# Altium footprint library __ui.PcbLib: 79 footprints (part 5 of 5)
Each footprint in its own frame and in the unit in brackets; x right, y up, seen from the top. Pads: shape width x height; smd on the part's side, far side on the other; paste and mask are expansions set on the pad; w line width, h text height; cw(c..) or ccw(c..) is an arc to the next point about the centre after c.
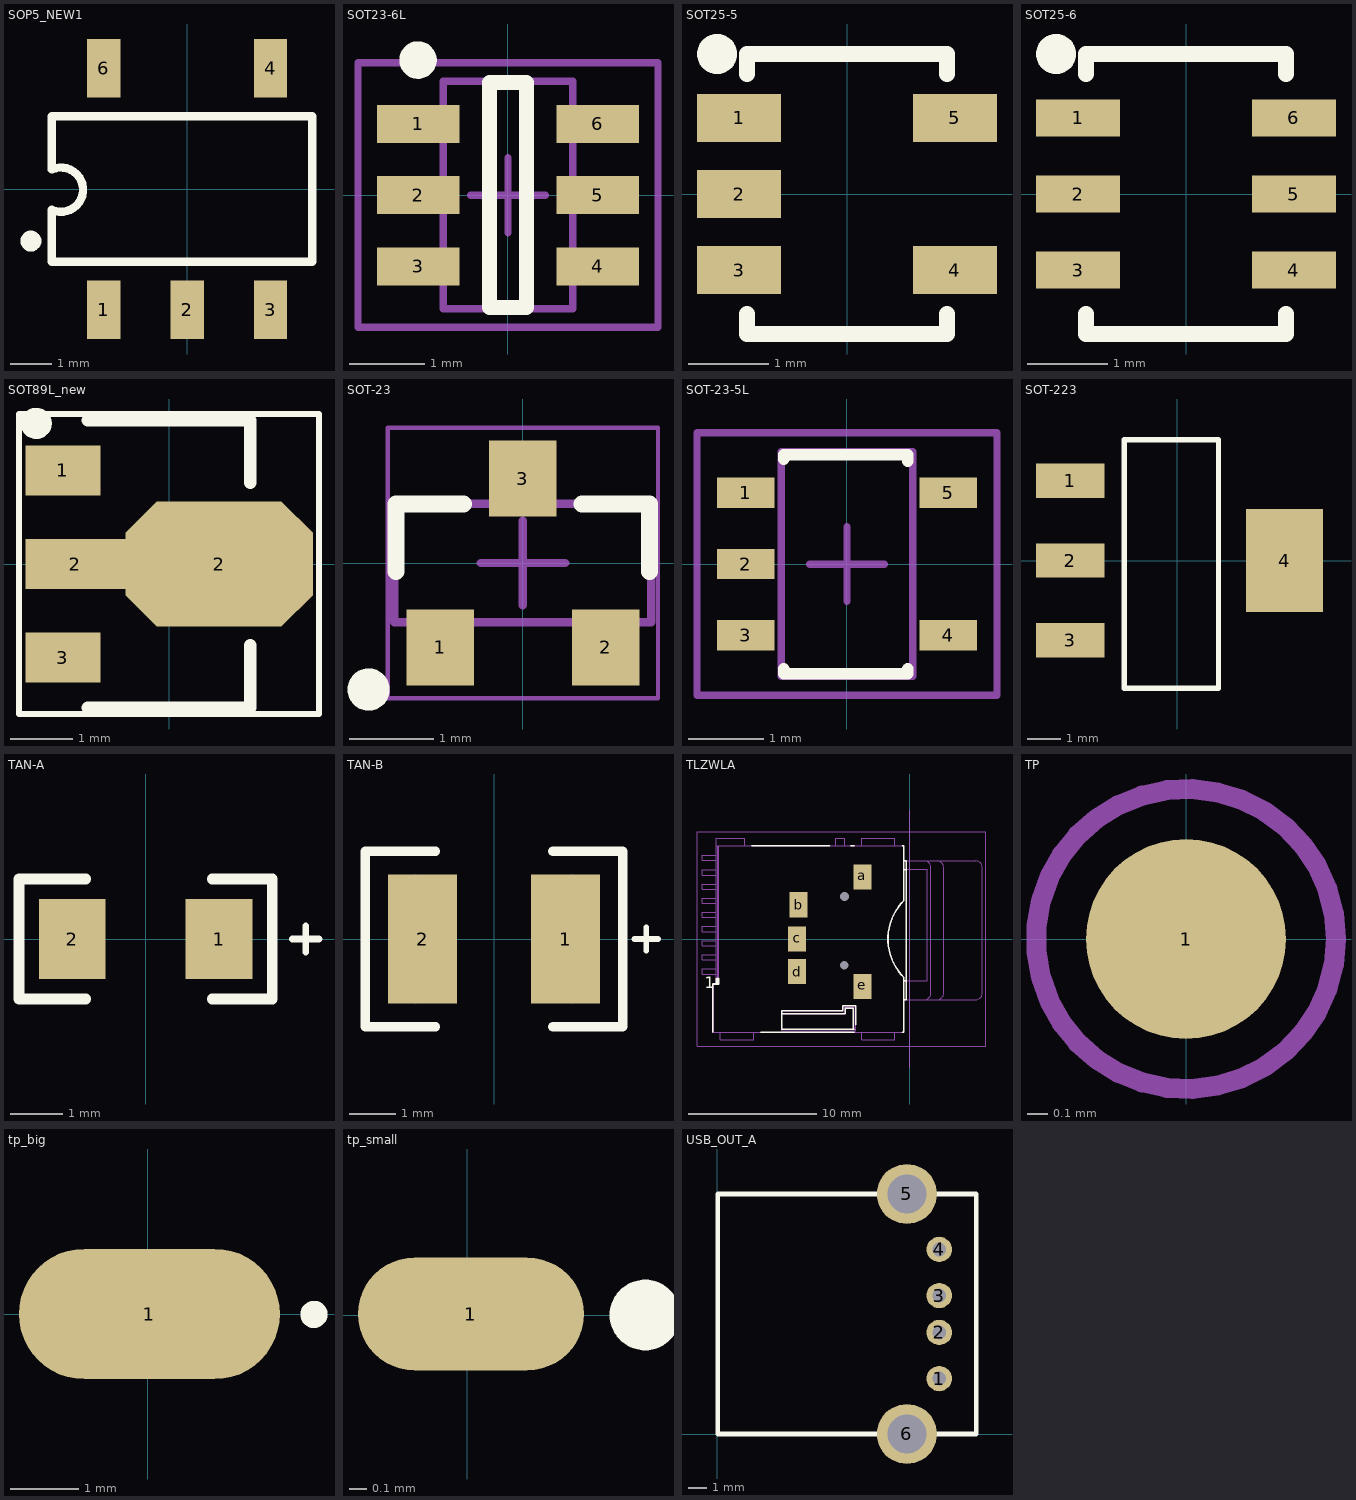
[diagram p4: the footprints below, top view; thin cyan lines are the x and y axes]

## SOP5_NEW1 [mm] "Small Outline; 6 Leads (1 Absent); Body Width 6.9 mm; Pitch 2 mm"
height 4.4
pads (5):
  rect 0.8x1.4 smd: 1(-2,-2.9) 2(0,-2.9) 3(2,-2.9) 4(2,2.9) 6(-2,2.9)
Top Overlay:
  circle w0.25: c-3.75,-1.25 r0.125
  lines w0.2: -3.25,0.5 -3.25,1.75 3,1.75 3,-1.75 -3.25,-1.75 -3.25,-0.5 ccw(c-3.031,-0.016) -3.249,0.469

## SOT23-6L [mm]
height 1.25
pads (6):
  rect 1.1x0.508 smd: 1(-1.2,0.95) 2(-1.2,0) 3(-1.2,-0.95) 4(1.2,-0.95) 5(1.2,0) 6(1.2,0.95)
Top Overlay:
  circle w0.25: c-1.2,1.8 r0.125
  lines w0.2: -0.25,-1.5 -0.25,1.5 0.25,1.5 0.25,-1.5 -0.25,-1.5
Mechanical 13:
  lines w0.1: -0.865,-1.515 0.865,-1.515 0.865,1.515 -0.865,1.515 -0.865,-1.515
Mechanical 15:
  lines w0.1: -0.5,0 0.5,0 ; 0,-0.5 0,0.5 ; -2,-1.763 2,-1.763 2,1.763 -2,1.763 -2,-1.763
3D body: height 1.25, standoff 0.05, extent -0.865,-1.515 0.865,1.515

## SOT25-5 [mm] "5 lead package"
height 1
pads (5):
  rect 1.05x0.6 smd: 1(-1.35,0.95) 2(-1.35,0) 3(-1.35,-0.95) 4(1.35,-0.95) 5(1.35,0.95)
Top Overlay:
  circle w0.25: c-1.625,1.75 r0.125
  lines w0.2: -1.25,-1.5 -1.25,-1.75 1.25,-1.75 1.25,-1.5 ; -1.25,1.5 -1.25,1.75 1.25,1.75 1.25,1.5

## SOT25-6 [mm] "6 lead package"
height 1
pads (6):
  rect 1.05x0.457 smd: 1(-1.35,0.95) 2(-1.35,0) 3(-1.35,-0.95) 4(1.35,-0.95) 5(1.35,0) 6(1.35,0.95)
Top Overlay:
  circle w0.25: c-1.625,1.75 r0.125
  lines w0.2: -1.25,-1.5 -1.25,-1.75 1.25,-1.75 1.25,-1.5 ; -1.25,1.5 -1.25,1.75 1.25,1.75 1.25,1.5

## SOT89L_new [mm] "SOT89, 3-Leads, Body 4.5x2.4 mm, Pitch 1.5mm, Lead Span 4.1mm, IPC High Density"
height 1.6
pads (4):
  rect 1.2x0.8 smd: 1(-1.7,1.5) 3(-1.7,-1.5)
  rect 1.6x0.8 smd: 2(-1.5,0)
  oct 3x2 smd: 2(0.8,0)
Top Overlay:
  circle w0.25: c-2.125,2.25 r0.125
  lines w0.1: -2.4,-2.4 -2.4,2.4 2.4,2.4 2.4,-2.4 -2.4,-2.4
  lines w0.2: -1.3,-2.3 1.3,-2.3 1.3,-1.3 ; -1.3,2.3 1.3,2.3 1.3,1.3

## SOT-23 [mm]
height 1.1
pads (3):
  rect 0.8x0.9 smd: 1(-0.98,-1) 2(0.98,-1) 3(0,1)
Top Overlay:
  circle w0.25: c-1.827,-1.499 r0.125
  lines w0.2: -1.5,-0.1 -1.5,0.7 -0.7,0.7 ; 0.7,0.7 1.5,0.7 1.5,-0.1
Mechanical 13:
  lines w0.1: -1.52,-0.7 1.52,-0.7 1.52,0.7 -1.52,0.7 -1.52,-0.7
Mechanical 15:
  lines w0.05: -1.6,-1.6 1.6,-1.6 1.6,1.6 -1.6,1.6 -1.6,-1.6
  lines w0.1: -0.5,0 0.5,0 ; 0,-0.5 0,0.5
3D body: height 1.11, standoff 0.01, extent -1.52,-0.7 1.52,0.7

## SOT-23-5L [mil] "Enhanced single channel power switches"
height 57.09
pads (5):
  rect 30x16 smd: 1(-53.15,37.4) 2(-53.15,0) 3(-53.15,-37.4) 4(53.15,-37.4) 5(53.15,37.4)
Top Overlay:
  lines w6: -33.15,-55 -33.15,-57.6 31.85,-57.6 31.85,-55 ; -33.15,55 -33.15,57.4 31.85,57.4 31.85,54
Mechanical 13:
  lines w3.94: -34.45,-59.06 34.45,-59.06 34.45,59.06 -34.45,59.06 -34.45,-59.06
Mechanical 15:
  lines w3.94: -19.68,0 19.69,0 ; 0,-19.68 0,19.69 ; -78.74,-68.9 78.74,-68.9 78.74,68.9 -78.74,68.9 -78.74,-68.9
3D body: height 57.09, standoff 1.97, extent -34.45,-59.06 34.45,59.06

## SOT-223 [mil] "Adjustable and fixed low drop positive voltage regulator"
height 70.87
pads (4):
  rect 80x40 smd: 1(-125,93) 2(-125,0) 3(-125,-93)
  rect 90x120 smd: 4(125,0)
Top Overlay:
  lines w6: -62,-149 48,-149 48,141 -62,141 -62,-149
3D body: height 70.87, standoff 7.87, extent -83.66,-131.89 62.01,131.89

## TAN-A [mil] "TAN Capacitor"
height 39.37
pads (2):
  rect 50x60 smd: 1(55,0) 2(-55,0)
Top Overlay:
  lines w5: 110,0 130,0 ; 120,-10 120,10
  lines w8: -45,-45 -95,-45 -95,45 -45,45 ; 50,-45 95,-45 95,45 50,45
3D body: height 39.37, standoff 0, extent -47.24,-35.43 47.24,35.43

## TAN-B [mm] "Tan Capacitor"
height 1
pads (2):
  rect 1.5x2.8 smd: 1(1.55,0) 2(-1.55,0)
Top Overlay:
  lines w0.127: 3.048,0 3.556,0 ; 3.302,-0.254 3.302,0.254
  lines w0.203: -1.27,-1.905 -2.794,-1.905 -2.794,1.905 -1.27,1.905 ; 1.27,-1.905 2.794,-1.905 2.794,1.905 1.27,1.905
Mechanical 13:
  lines w0.1: -1.7,-1.35 -1.7,1.35 ; 1.7,-1.35 1.7,1.35
3D body: height 1, standoff 0, extent -1.763,-1.537 1.704,1.539

## TLZWLA [mm]
pads (7):
  rect 1.4x1.95 smd paste+0 mask+0.05: a(-3.683,4.826) b(-8.636,2.667) c(-8.763,0) d(-8.763,-2.54) e(-3.683,-3.683)
  round 0 hole 0.65 unplated mask+0.05: NPTH1(-5.08,-2.032)
  round 0 hole 0.7 unplated mask+0.05: NPTH2(-5.08,3.302)
Top Overlay:
  lines w0.12: -15.325,-7.25 -15.325,-3.5 -14.85,-3.5 -14.85,-3.05 ; -15.05,-3.5 -15.05,-3.05 ; -14.95,-3.5 -14.95,-3.05 ; -12.275,7.25 -6.225,7.25 ; -11.575,-7.25 -4.325,-7.25 ; -9.95,-5.825 -5.025,-5.825 -5.025,-5.375 -4.375,-5.375 -4.375,-7.025 ; -4.575,7.25 -4.325,7.25 ; -4.325,-7.025 -9.95,-7.025 -9.95,-5.575 -5.2,-5.575 -5.2,-5.2 -4.2,-5.2 -4.2,-6.675 ; -0.575,-7.25 -0.45,-7.25 -0.45,-3 cw(c2.55,0) -0.45,3 -0.45,7.25 -0.575,7.25 ; -0.452,-3.257 -0.284,-3.258 ; -0.452,5.379 -0.284,5.378 ; -0.45,-4.725 -0.283,-4.725 -0.283,6.074 -0.45,6.075
  text "1" at -15.95,-4.15 h1.5
Mechanical 4:
  lines w0.01: -15.05,-2.725 -16.15,-2.725 -16.15,-2.325 -15.05,-2.325 ; -15.05,-1.625 -16.15,-1.625 -16.15,-1.225 -15.05,-1.225 ; -15.05,-0.525 -16.15,-0.525 -16.15,-0.125 -15.05,-0.125 ; -15.05,0.575 -16.15,0.575 -16.15,0.975 -15.05,0.975 ; -15.05,1.675 -16.15,1.675 -16.15,2.075 -15.05,2.075 ; -15.05,2.775 -16.15,2.775 -16.15,3.175 -15.05,3.175 ; -15.05,3.875 -16.15,3.875 -16.15,4.275 -15.05,4.275 ; -15.05,4.975 -16.15,4.975 -16.15,5.375 -15.05,5.375 ; -15.05,6.125 -16.15,6.125 -16.15,6.525 -15.05,6.525 ; -14.975,7.25 -14.85,7.25 ; -14.75,-7.25 -14.75,-7.85 -12.15,-7.85 -12.15,-7.25 ; -12.85,7.25 -12.85,7.85 -15.05,7.85 -15.05,7.25 ; -9.95,-7.025 -4.325,-7.025 -4.325,-5.325 -5.075,-5.325 -5.075,-5.825 -9.95,-5.825 ; -5.75,7.25 -5.75,7.85 -5.05,7.85 -5.05,7.25 ; -3.75,7.25 -3.75,7.85 -1.15,7.85 -1.15,7.25 ; -3.725,-7.25 -3.725,-7.85 -1.15,-7.85 -1.15,-7.25 ; -0.45,-4.725 -0.425,-4.725 1.125,-4.725 ; -0.45,-3.25 1.35,-3.25 1.35,5.425 -0.45,5.425 ; -0.45,6.075 1.125,6.075 ; -15.05,7.25 -15.05,-3.5 -14.95,-3.5 -14.95,7.25 -15.05,7.25 ; -14.85,7.25 -0.45,7.25 -0.45,6.95 -0.45,3 ccw(c2.55,0) -0.45,-3 -0.45,-7.25 -15.25,-7.25 -15.25,-5.85 -15.25,-3.5 -14.85,-3.5 -14.85,-3.15 -14.85,7.25 ; 1.125,-4.725 ccw(c1.125,-4.2) 1.65,-4.2 1.65,5.55 ccw(c1.125,5.55) 1.125,6.075 ; 1.125,-4.725 2.125,-4.725 ; 1.125,6.075 2.125,6.075 ; 2.125,-4.725 ccw(c2.125,-4.2) 2.65,-4.2 2.65,5.55 ccw(c2.125,5.55) 2.125,6.075 ; 2.125,-4.725 5.125,-4.725 ccw(c5.125,-4.2) 5.65,-4.2 5.65,5.55 ccw(c5.125,5.55) 5.125,6.075 2.125,6.075 ; -16.55,-8.35 -16.55,7.625 -16.55,8.35 -15.575,8.35 5.925,8.35 5.925,7.825 5.925,-8.35 -0.175,-8.35 -14.925,-8.35 -16.55,-8.35 ; -9.95,-7.15 -4.2,-7.15 -4.2,-5.2 -5.2,-5.2 -5.2,-5.575 -9.95,-5.575 -9.95,-7.15
  text "'.Designator'" at -9.779,-9.144 h0.75
  text "10" at -6.075,6.15 h1.5
  text "9" at -14.5,5.825 h1.5
  text "1" at -14.45,-3 h1.5
Mechanical 7:
  lines w0.01: 0,-10 0,10
  text "PCB" at 0.075,10 h1
  text "EDGE" at 0.075,-7.575 h1

## TP [mm] "Testpoint, Surface Mounting, Circular, Pad Diameter 1mm"
height 1
pads (1):
  round 1 smd: 1(0,0)
Mechanical 15:
  circle w0.1: c0,0 r0.75

## tp_big [mm]
pads (1):
  oval 3.81x1.905 smd: 1(0.022,0.006)
Top Overlay:
  circle w0.25: c2.425,0 r0.073

## tp_small [mm]
pads (1):
  oval 1.27x0.635 smd: 1(0.022,0.006)
Top Overlay:
  circle w0.25: c1,0 r0.073

## USB_OUT_A [mil]
pads (6):
  round 55 hole 30: 1(480.7,120.96) 2(480.7,220.96) 3(480.7,300.96) 4(480.7,400.96)
  round 130 hole 85: 5(410.7,520.96) 6(410.7,0.96)
Top Overlay:
  lines w10: 0.7,520.96 0.81,0.96 560.7,0.96 560.98,520.96 ; 1.09,520.96 560.7,520.96